# EAGLE library part EXP1.1-1 (library usb-fpga-1)
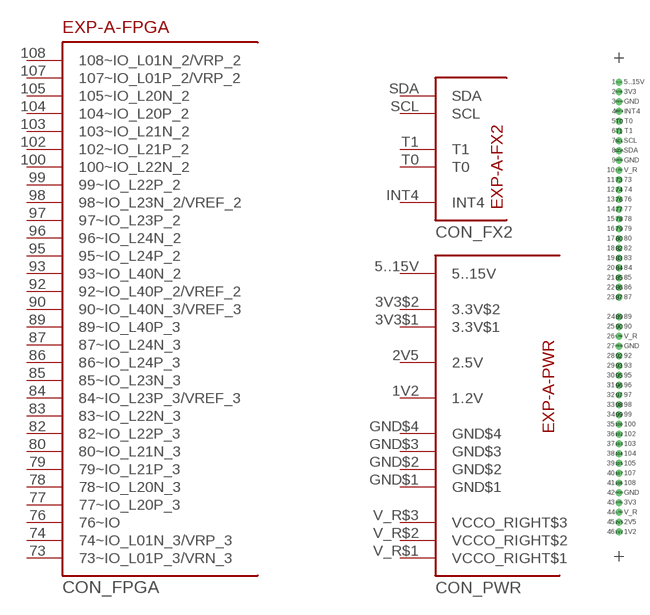
[diagram p1: symbol with the pads of EXP1.1-A; footprint EXP1.1-A]

Designator prefix CON; gates _FPGA=EXP1.1-A-FPGA _FX2=EXP1.1-A-FX2 _PWR=EXP1.1-A-PWR

## EXP1.1-1EXP-1-A  [EXP1.1-A]
1V2  _PWR:1.2V
2V5  _PWR:2.5V
3V3$1  _PWR:3.3V$1
3V3$2  _PWR:3.3V$2
5..15V  _PWR:5..15V
73  _FPGA:73~IO_L01P_3/VRN_3
74  _FPGA:74~IO_L01N_3/VRP_3
76  _FPGA:76~IO
77  _FPGA:77~IO_L20P_3
78  _FPGA:78~IO_L20N_3
79  _FPGA:79~IO_L21P_3
80  _FPGA:80~IO_L21N_3
82  _FPGA:82~IO_L22P_3
83  _FPGA:83~IO_L22N_3
84  _FPGA:84~IO_L23P_3/VREF_3
85  _FPGA:85~IO_L23N_3
86  _FPGA:86~IO_L24P_3
87  _FPGA:87~IO_L24N_3
89  _FPGA:89~IO_L40P_3
90  _FPGA:90~IO_L40N_3/VREF_3
92  _FPGA:92~IO_L40P_2/VREF_2
93  _FPGA:93~IO_L40N_2
95  _FPGA:95~IO_L24P_2
96  _FPGA:96~IO_L24N_2
97  _FPGA:97~IO_L23P_2
98  _FPGA:98~IO_L23N_2/VREF_2
99  _FPGA:99~IO_L22P_2
100  _FPGA:100~IO_L22N_2
102  _FPGA:102~IO_L21P_2
103  _FPGA:103~IO_L21N_2
104  _FPGA:104~IO_L20P_2
105  _FPGA:105~IO_L20N_2
107  _FPGA:107~IO_L01P_2/VRP_2
108  _FPGA:108~IO_L01N_2/VRP_2
GND$1  _PWR:GND$1
GND$2  _PWR:GND$2
GND$3  _PWR:GND$3
GND$4  _PWR:GND$4
INT4  _FX2:INT4
SCL  _FX2:SCL
SDA  _FX2:SDA
T0  _FX2:T0
T1  _FX2:T1
V_R$1  _PWR:VCCO_RIGHT$1
V_R$2  _PWR:VCCO_RIGHT$2
V_R$3  _PWR:VCCO_RIGHT$3

## Footprint EXP1.1-A (pad centres in mm)
drill 1.2 round: 1V2 0,-58.42; 2V5 0,-55.88; 3V3$1 0,-50.8; 3V3$2 0,55.88; 5..15V 0,58.42; 73 0,33.02; 74 0,30.48; 76 0,27.94; 77 0,25.4; 78 0,22.86; 79 0,20.32; 80 0,17.78; 82 0,15.24; 83 0,12.7; 84 0,10.16; 85 0,7.62; 86 0,5.08; 87 0,2.54; 89 0,-2.54; 90 0,-5.08; 92 0,-12.7; 93 0,-15.24; 95 0,-17.78; 96 0,-20.32; 97 0,-22.86; 98 0,-25.4; 99 0,-27.94; 100 0,-30.48; 102 0,-33.02; 103 0,-35.56; 104 0,-38.1; 105 0,-40.64; 107 0,-43.18; 108 0,-45.72; GND$1 0,38.1; GND$2 0,-10.16; GND$3 0,-48.26; GND$4 0,53.34; INT4 0,50.8; SCL 0,43.18; SDA 0,40.64; T0 0,48.26; T1 0,45.72; V_R$1 0,35.56; V_R$2 0,-7.62; V_R$3 0,-53.34